# Altium footprint library Custom.PcbLib: 446 footprints (part 16 of 28)
Each footprint in its own frame and in the unit in brackets; x right, y up, seen from the top. Pads: shape width x height; smd on the part's side, far side on the other; paste and mask are expansions set on the pad; w line width, h text height; cw(c..) or ccw(c..) is an arc to the next point about the centre after c.
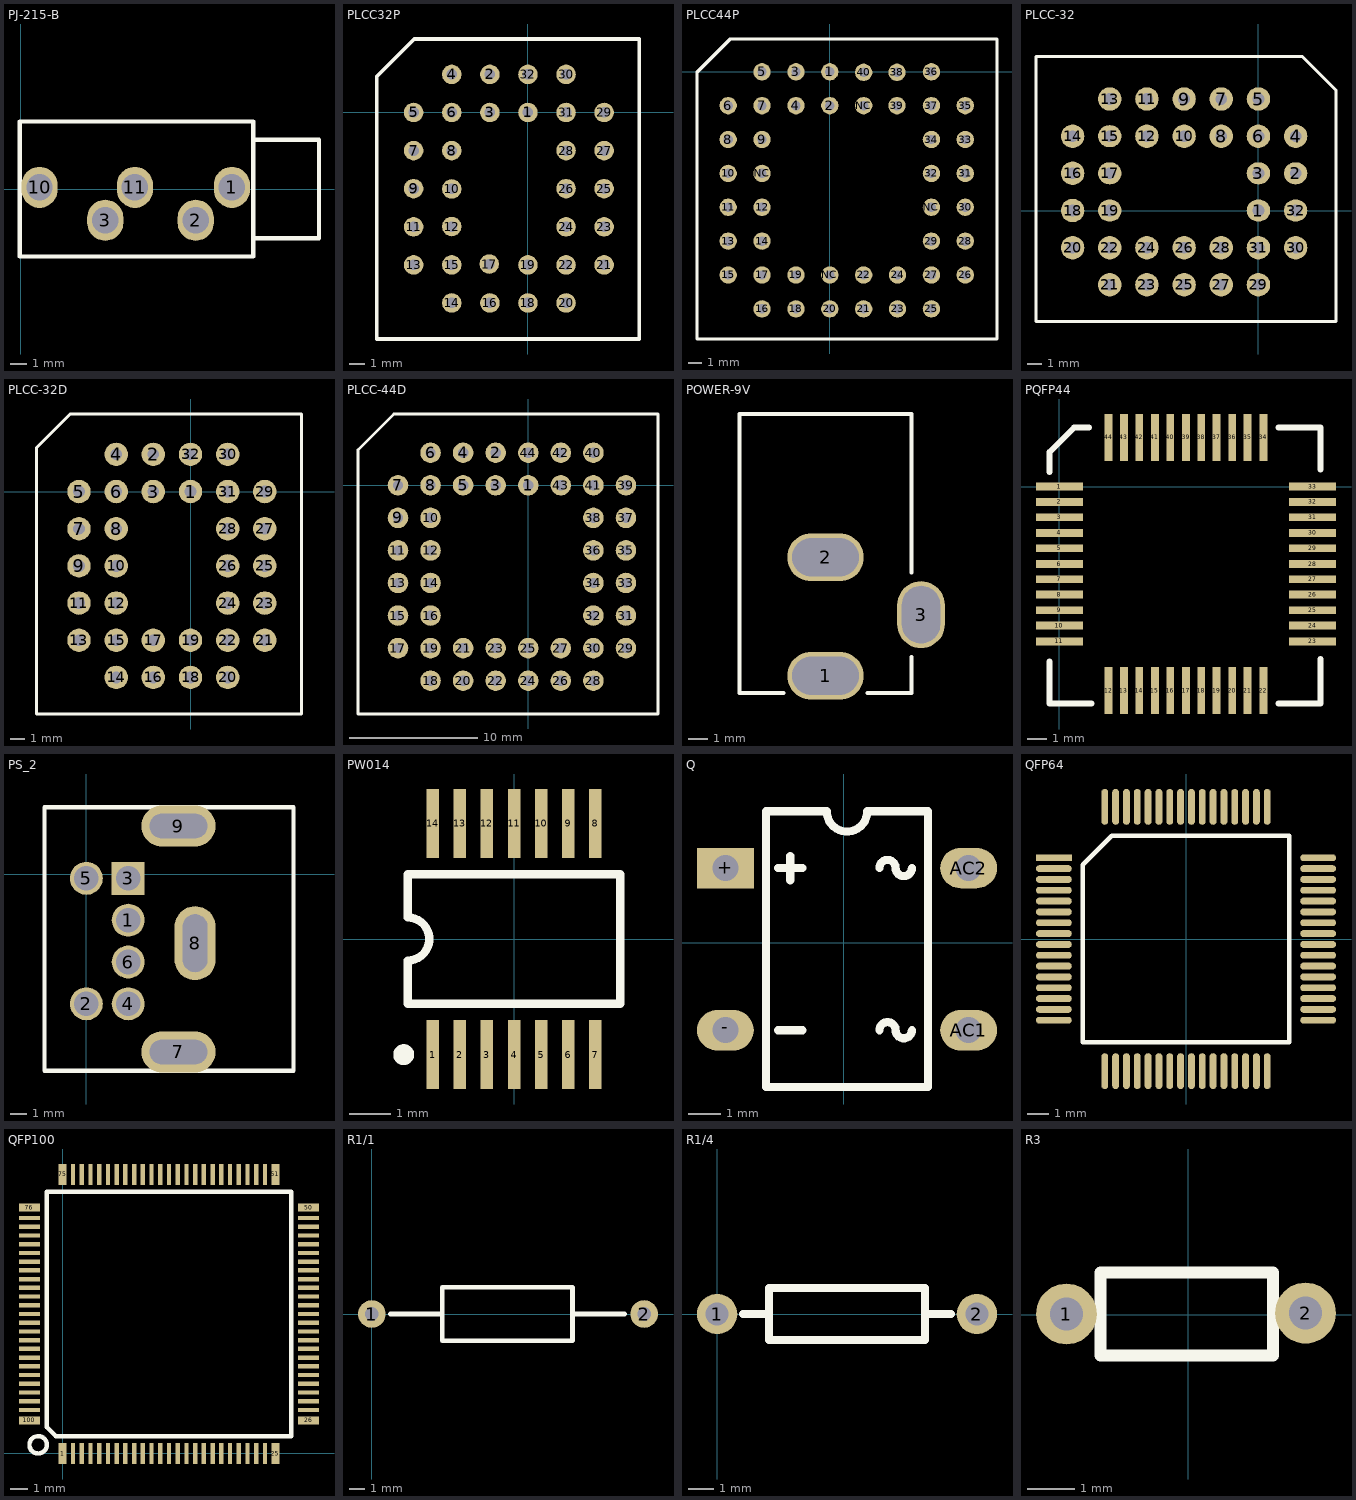
[diagram p15: the footprints below, top view; thin cyan lines are the x and y axes]

## PJ-215-B [mm]
pads (5):
  oval 2.2x2.5 hole 1.6: 1(12.854,0.113) 2(10.654,-1.887) 3(5.154,-1.887) 10(1.154,0.113) 11(6.954,0.113)
Top Overlay:
  lines w0.254: 14.154,-2.987 18.154,-2.987 18.154,3.013 14.154,3.013 ; -0.046,-4.087 -0.046,4.113 14.154,4.113 14.154,-4.087 -0.046,-4.087

## PLCC32P [mm]
pads (32):
  round 1.3 hole 0.7: 1(0,0) 2(-2.54,2.54) 3(-2.54,0) 4(-5.08,2.54) 5(-7.62,0) 6(-5.08,0) 7(-7.62,-2.54) 8(-5.08,-2.54) 9(-7.62,-5.08) 10(-5.08,-5.1) 11(-7.62,-7.62) 12(-5.08,-7.6) 13(-7.62,-10.16) 14(-5.08,-12.7) 15(-5.08,-10.16) 16(-2.54,-12.7) 17(-2.58,-10.1) 18(0,-12.7) 19(0,-10.16) 20(2.54,-12.7) 21(5.08,-10.16) 22(2.54,-10.16) 23(5.08,-7.62) 24(2.54,-7.62) 25(5.08,-5.08) 26(2.54,-5.08) 27(5.08,-2.54) 28(2.54,-2.54) 29(5.08,0) 30(2.54,2.54) 31(2.54,0) 32(0,2.54)
Top Overlay:
  lines w0.254: -10.08,-15.1 -10.08,-0.1 -10.08,2.4 -7.58,4.9 -5.08,4.9 7.42,4.9 7.42,-15.1 -10.08,-15.1

## PLCC44P [mm]
pads (44):
  round 1.3 hole 0.7: 1(0,0) 2(0,-2.54) 3(-2.54,0) 4(-2.54,-2.54) 5(-5.08,0) 6(-7.62,-2.54) 7(-5.08,-2.54) 8(-7.62,-5.08) 9(-5.08,-5.08) 10(-7.62,-7.62) 11(-7.62,-10.16) 12(-5.08,-10.16) 13(-7.62,-12.7) 14(-5.08,-12.7) 15(-7.62,-15.24) 16(-5.08,-17.78) 17(-5.08,-15.24) 18(-2.54,-17.78) 19(-2.54,-15.24) 20(0,-17.78) 21(2.54,-17.78) 22(2.54,-15.24) 23(5.08,-17.78) 24(5.08,-15.24) 25(7.62,-17.78) 26(10.16,-15.24) 27(7.62,-15.24) 28(10.16,-12.7) 29(7.62,-12.7) 30(10.16,-10.16) 31(10.16,-7.62) 32(7.62,-7.62) 33(10.16,-5.08) 34(7.62,-5.08) 35(10.16,-2.54) 36(7.62,0) 37(7.62,-2.54) 38(5.04,-0.04) 39(5.04,-2.54) 40(2.54,-0.04) NC(-5.08,-7.62) NC(0,-15.24) NC(2.54,-2.54) NC(7.62,-10.16)
Top Overlay:
  lines w0.254: -9.96,-20.04 -9.96,-2.54 -9.96,-0.04 -7.46,2.46 -4.96,2.46 12.54,2.46 12.54,-20.04 -9.96,-20.04

## PLCC-32 [mm]
pads (32):
  oval 1.6x1.5 hole 0.8: 1(0,0) 2(2.54,2.54) 3(0,2.54) 15(-10.16,5.08) 17(-10.16,2.54) 19(-10.16,0) 32(2.54,0)
  round 1.6 hole 0.8: 4(2.54,5.08) 5(0,7.62) 6(0,5.08) 7(-2.54,7.62) 8(-2.54,5.08) 9(-5.08,7.62) 10(-5.08,5.08) 11(-7.62,7.62) 12(-7.62,5.08) 13(-10.16,7.62) 14(-12.7,5.08) 16(-12.7,2.54) 18(-12.7,0) 20(-12.7,-2.54) 21(-10.16,-5.08) 22(-10.16,-2.54) 23(-7.62,-5.08) 24(-7.62,-2.54) 25(-5.08,-5.08) 26(-5.08,-2.54) 27(-2.54,-5.08) 28(-2.54,-2.54) 29(0,-5.08) 30(2.54,-2.54) 31(0,-2.54)
Top Overlay:
  lines w0.2: -15.2,-7.58 5.3,-7.58 5.3,8.22 3.1,10.42 3,10.52 -15.2,10.52 -15.2,-7.58

## PLCC-32D [mm]
pads (32):
  round 1.6 hole 0.8: 1(0,0) 2(-2.54,2.54) 3(-2.54,0) 4(-5.08,2.54) 5(-7.62,0) 6(-5.08,0) 7(-7.62,-2.54) 8(-5.08,-2.54) 9(-7.62,-5.08) 10(-5.08,-5.08) 11(-7.62,-7.62) 12(-5.08,-7.62) 13(-7.62,-10.16) 14(-5.08,-12.7) 15(-5.08,-10.16) 16(-2.54,-12.7) 17(-2.54,-10.16) 18(0,-12.7) 19(0,-10.16) 20(2.54,-12.7) 21(5.08,-10.16) 22(2.54,-10.16) 23(5.08,-7.62) 24(2.54,-7.62) 25(5.08,-5.08) 26(2.54,-5.08) 27(5.08,-2.54) 28(2.54,-2.54) 29(5.08,0) 30(2.54,2.54) 31(2.54,0) 32(0,2.54)
Top Overlay:
  lines w0.2: -10.52,-15.2 7.58,-15.2 7.58,5.3 -8.22,5.3 -10.42,3.1 -10.52,3 -10.52,-15.2

## PLCC-44D [mm]
pads (44):
  round 1.6 hole 0.8: 1(0,0) 2(-2.54,2.54) 3(-2.54,0) 4(-5.08,2.54) 5(-5.08,0) 6(-7.62,2.54) 7(-10.16,0) 8(-7.62,0) 9(-10.16,-2.54) 10(-7.62,-2.54) 11(-10.16,-5.08) 12(-7.62,-5.08) 13(-10.16,-7.62) 14(-7.62,-7.62) 15(-10.16,-10.16) 16(-7.62,-10.16) 17(-10.16,-12.7) 18(-7.62,-15.24) 19(-7.62,-12.7) 20(-5.08,-15.24) 21(-5.08,-12.7) 22(-2.54,-15.24) 23(-2.54,-12.7) 24(0,-15.24) 25(0,-12.7) 26(2.54,-15.24) 27(2.54,-12.7) 28(5.08,-15.24) 29(7.62,-12.7) 30(5.08,-12.7) 31(7.62,-10.16) 32(5.08,-10.16) 33(7.62,-7.62) 34(5.08,-7.62) 35(7.62,-5.08) 36(5.08,-5.08) 37(7.62,-2.54) 38(5.08,-2.54) 39(7.62,0) 40(5.08,2.54) 41(5.08,0) 42(2.54,2.54) 43(2.54,0) 44(0,2.54)
Top Overlay:
  lines w0.2: -13.28,-17.84 10.12,-17.84 10.12,5.56 -10.48,5.56 -13.28,2.76 -13.28,-17.84

## POWER-9V [mm]
pads (3):
  oval 4x2.5 hole 2 slot 3.5 at 0 deg: 1(-772.668,-881.745) 2(-772.668,-875.545)
  oval 2.5x3.5 hole 2 slot 3 at 90 deg: 3(-767.668,-878.545)
Top Overlay:
  lines w0.2: -774.868,-882.645 -777.168,-882.645 -777.168,-868.045 -768.168,-868.045 -768.168,-876.345 ; -770.468,-882.645 -768.168,-882.645 -768.168,-880.745

## PQFP44 [mil]
pads (44):
  rect 95x16 smd: 1(0,0) 2(0,-31) 3(0,-62) 4(0,-94) 5(0,-125) 6(0,-157) 7(0,-188) 8(0,-219) 9(0,-251) 10(0,-282) 11(0,-314) 23(514,-314) 24(514,-282) 25(514,-251) 26(514,-219) 27(514,-188) 28(514,-157) 29(514,-125) 30(514,-94) 31(514,-62) 32(514,-31) 33(514,0)
  rect 16x95 smd: 12(100,-414) 13(131,-414) 14(162,-414) 15(194,-414) 16(225,-414) 17(257,-414) 18(288,-414) 19(319,-414) 20(351,-414) 21(382,-414) 22(414,-414) 34(414,100) 35(382,100) 36(351,100) 37(319,100) 38(288,100) 39(257,100) 40(225,100) 41(194,100) 42(162,100) 43(131,100) 44(100,100)
Top Overlay:
  lines w12: -20,-355 -20,-440 65,-440 ; -20,30 -20,70 30,120 60,120 ; 445,-440 530,-440 530,-350 ; 445,120 530,120 530,35

## PS_2 [mm]
pads (9):
  round 2 hole 1.5: 1(2.54,-2.794) 2(0,-7.874) 4(2.54,-7.874) 5(0,-0.254) 6(2.54,-5.334)
  rect 2x2 hole 1.5: 3(2.54,-0.254)
  oval 4.5x2.5 hole 1.5 slot 3.5 at 0 deg: 7(5.588,-10.795) 9(5.588,2.921)
  oval 2.5x4.5 hole 1.5 slot 3.5 at 90 deg: 8(6.604,-4.191)
Top Overlay:
  lines w0.254: -2.54,-11.938 -2.54,4.064 12.573,4.064 12.573,-11.938 -2.54,-11.938

## PW014 [mm] "Shrink Small Outline; 14 Leads; Body Width 4.4 mm; Pitch 0.65 mm"
height 1.2
pads (14):
  rect 0.3x1.65 smd: 1(-1.95,-2.775) 2(-1.3,-2.775) 3(-0.65,-2.775) 4(0,-2.775) 5(0.65,-2.775) 6(1.3,-2.775) 7(1.95,-2.775) 8(1.95,2.775) 9(1.3,2.775) 10(0.65,2.775) 11(0,2.775) 12(-0.65,2.775) 13(-1.3,2.775) 14(-1.95,2.775)
Top Overlay:
  circle w0.25: c-2.65,-2.775 r0.125
  lines w0.2: -2.55,-1.55 2.55,-1.55 2.55,1.55 -2.55,1.55 -2.55,0.517 cw(c-2.55,0) -2.55,-0.517 -2.55,-1.55

## Q [mil]
pads (4):
  rect 70x50 hole 32: +(-145.75,91.89)
  oval 70x50 hole 32: -(-145.75,-108.11) AC1(154.25,-108.11) AC2(154.25,91.89)
Top Overlay:
  lines w10: -80.75,-108.11 -50.75,-108.11 ; -80.75,91.89 -50.75,91.89 ; -65.75,76.89 -65.75,106.89 ; 44.25,-108.11 cw(c54.25,-108.11) 64.25,-108.11 ccw(c74.25,-108.11) 84.25,-108.11 ; 44.25,91.89 cw(c54.25,91.89) 64.25,91.89 ccw(c74.25,91.89) 84.25,91.89 ; -95.75,-178.11 104.25,-178.11 104.25,161.89 29.25,161.89 cw(c4.25,161.89) -20.75,161.89 -95.75,161.89 -95.75,-178.11

## QFP64 [mm]
pads (64):
  rect 1.651x0.32 smd: 1(-6.1,3.75)
  oval 1.651x0.32 smd: 2(-6.1,3.25) 3(-6.1,2.75) 4(-6.1,2.25) 5(-6.1,1.75) 6(-6.1,1.25) 7(-6.1,0.75) 8(-6.1,0.25) 9(-6.1,-0.25) 10(-6.1,-0.75) 11(-6.1,-1.25) 12(-6.1,-1.75) 13(-6.1,-2.25) 14(-6.1,-2.75) 15(-6.1,-3.25) 16(-6.1,-3.75) 33(6.1,-3.75) 34(6.1,-3.25) 35(6.1,-2.75) 36(6.1,-2.25) 37(6.1,-1.75) 38(6.1,-1.25) 39(6.1,-0.75) 40(6.1,-0.25) 41(6.1,0.25) 42(6.1,0.75) 43(6.1,1.25) 44(6.1,1.75) 45(6.1,2.25) 46(6.1,2.75) 47(6.1,3.25) 48(6.1,3.75)
  oval 0.32x1.651 smd: 17(-3.75,-6.1) 18(-3.25,-6.1) 19(-2.75,-6.1) 20(-2.25,-6.1) 21(-1.75,-6.1) 22(-1.25,-6.1) 23(-0.75,-6.1) 24(-0.25,-6.1) 25(0.25,-6.1) 26(0.75,-6.1) 27(1.25,-6.1) 28(1.75,-6.1) 29(2.25,-6.1) 30(2.75,-6.1) 31(3.25,-6.1) 32(3.75,-6.1) 49(3.75,6.1) 50(3.25,6.1) 51(2.75,6.1) 52(2.25,6.1) 53(1.75,6.1) 54(1.25,6.1) 55(0.75,6.1) 56(0.25,6.1) 57(-0.25,6.1) 58(-0.75,6.1) 59(-1.25,6.1) 60(-1.75,6.1) 61(-2.25,6.1) 62(-2.75,6.1) 63(-3.25,6.1) 64(-3.75,6.1)
Top Overlay:
  lines w0.2: -4.765,-4.765 -4.765,3.43 -3.43,4.765 4.765,4.765 4.765,-4.765 -4.765,-4.765

## QFP100 [mm]
pads (100):
  rect 0.45x1.2 smd: 1(-0.008,-0.004) 25(12.192,-0.004) 51(12.192,15.996) 75(-0.008,15.996)
  rect 0.25x1.2 smd: 2(0.592,-0.004) 3(1.092,-0.004) 4(1.592,-0.004) 5(2.092,-0.004) 6(2.592,-0.004) 7(3.092,-0.004) 8(3.592,-0.004) 9(4.092,-0.004) 10(4.592,-0.004) 11(5.092,-0.004) 12(5.592,-0.004) 13(6.092,-0.004) 14(6.592,-0.004) 15(7.092,-0.004) 16(7.592,-0.004) 17(8.092,-0.004) 18(8.592,-0.004) 19(9.092,-0.004) 20(9.592,-0.004) 21(10.092,-0.004) 22(10.592,-0.004) 23(11.092,-0.004) 24(11.592,-0.004) 52(11.592,15.996) 53(11.092,15.996) 54(10.592,15.996) 55(10.092,15.996) 56(9.592,15.996) 57(9.092,15.996) 58(8.592,15.996) 59(8.092,15.996) 60(7.592,15.996) 61(7.092,15.996) 62(6.592,15.996) 63(6.092,15.996) 64(5.592,15.996) 65(5.092,15.996) 66(4.592,15.996) 67(4.092,15.996) 68(3.592,15.996) 69(3.092,15.996) 70(2.592,15.996) 71(2.092,15.996) 72(1.592,15.996) 73(1.092,15.996) 74(0.592,15.996)
  rect 1.2x0.45 smd: 26(14.092,1.896) 50(14.092,14.096) 76(-1.908,14.096) 100(-1.908,1.896)
  rect 1.2x0.25 smd: 27(14.092,2.496) 28(14.092,2.996) 29(14.092,3.496) 30(14.092,3.996) 31(14.092,4.496) 32(14.092,4.996) 33(14.092,5.496) 34(14.092,5.996) 35(14.092,6.496) 36(14.092,6.996) 37(14.092,7.496) 38(14.092,7.996) 39(14.092,8.496) 40(14.092,8.996) 41(14.092,9.496) 42(14.092,9.996) 43(14.092,10.496) 44(14.092,10.996) 45(14.092,11.496) 46(14.092,11.996) 47(14.092,12.496) 48(14.092,12.996) 49(14.092,13.496) 77(-1.908,13.496) 78(-1.908,12.996) 79(-1.908,12.496) 80(-1.908,11.996) 81(-1.908,11.496) 82(-1.908,10.996) 83(-1.908,10.496) 84(-1.908,9.996) 85(-1.908,9.496) 86(-1.908,8.996) 87(-1.908,8.496) 88(-1.908,7.996) 89(-1.908,7.496) 90(-1.908,6.996) 91(-1.908,6.496) 92(-1.908,5.996) 93(-1.908,5.496) 94(-1.908,4.996) 95(-1.908,4.496) 96(-1.908,3.996) 97(-1.908,3.496) 98(-1.908,2.996) 99(-1.908,2.496)
Top Overlay:
  circle w0.254: c-1.408,0.496 r0.5
  lines w0.254: -0.908,1.496 -0.908,14.996 13.092,14.996 13.092,0.996 -0.408,0.996 -0.908,1.496

## R1/1 [mm]
pads (2):
  round 1.8 hole 0.9: 1(0,0) 2(17.78,0)
Top Overlay:
  lines w0.305: 1.2,0 4.6,0 ; 4.6,-1.75 4.6,1.75 13.1,1.75 13.1,-1.75 4.7,-1.75 ; 13.1,0 16.5,0

## R1/4 [mil]
pads (2):
  round 62 hole 35.43: 1(0,0) 2(400,0)
Top Overlay:
  lines w12: 40,0 80,0 ; 320,0 360,0 ; 80,-40 320,-40 320,40 80,40 80,-40

## R3 [mm]
pads (2):
  round 1.3 hole 0.7: 1(-2.6,0.02) 2(2.5,0.04)
Top Overlay:
  lines w0.254: -1.878,-0.869 1.805,-0.869 1.805,0.909 -1.878,0.909 -1.878,-0.869